# Altium footprint library bt.PcbLib: 12 footprints
Each footprint in its own frame and in the unit in brackets; x right, y up, seen from the top. Pads: shape width x height; smd on the part's side, far side on the other; paste and mask are expansions set on the pad; w line width, h text height; cw(c..) or ccw(c..) is an arc to the next point about the centre after c.
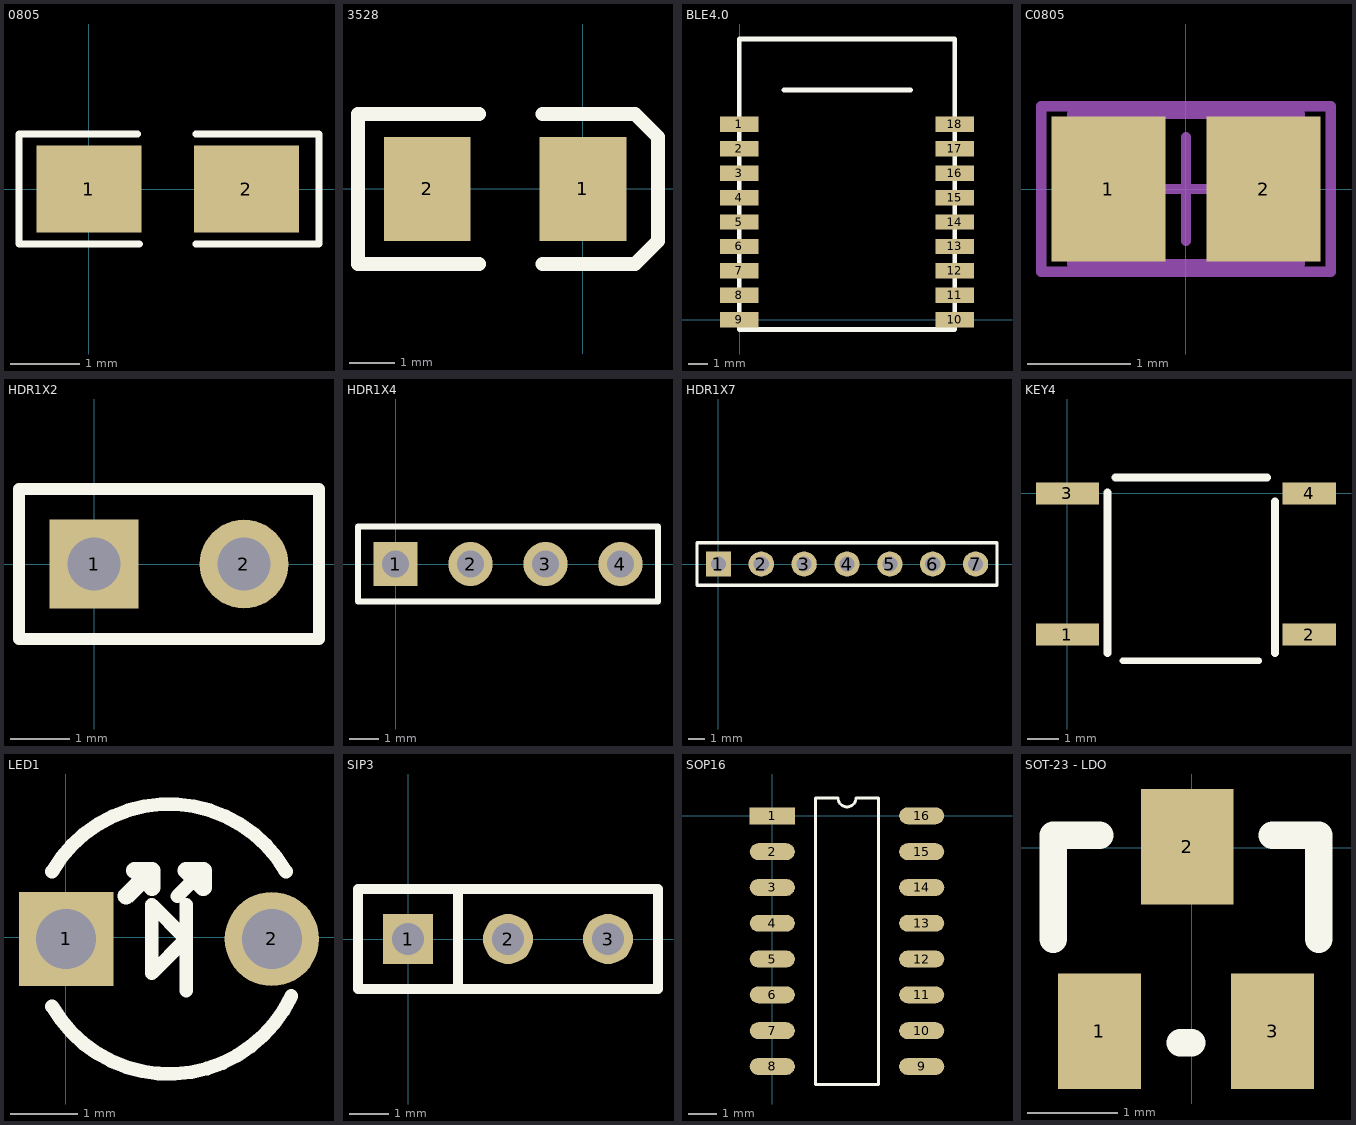
[diagram p0: the footprints below, top view; thin cyan lines are the x and y axes]

## 0805 [mil]
pads (2):
  rect 60x50 smd: 1(0,0) 2(90,0)
Top Overlay:
  lines w3.94: 27.87,31.5 -40,31.5 -40,-31.5 28.94,-31.5 ; 61.06,-31.5 120,-31.5 131.5,-31.5 131.5,31.5 61.06,31.5

## 3528 [mil]
pads (2):
  rect 75x90 smd: 1(0,0) 2(-135,0)
Top Overlay:
  lines w12: -90,-65 -195,-65 -195,65 -90,65 ; -35,-65 45,-65 65,-45 65,45 45,65 -35,65

## BLE4.0 [mm]
pads (18):
  rect 2x0.8 smd: 1(-0.024,10.16) 2(-0.024,8.89) 3(-0.024,7.62) 4(-0.024,6.35) 5(-0.024,5.08) 6(-0.024,3.81) 7(-0.024,2.54) 8(-0.024,1.27) 9(-0.024,0) 10(11.176,0) 11(11.176,1.27) 12(11.176,2.54) 13(11.176,3.81) 14(11.176,5.08) 15(11.176,6.35) 16(11.176,7.62) 17(11.176,8.89) 18(11.176,10.16)
Top Overlay:
  lines w0.254: 2.286,11.938 8.89,11.938 ; -0.024,-0.508 -0.024,14.592 11.176,14.592 11.176,-0.508 -0.024,-0.508

## C0805 [mm] "Chip Capacitor, Body 2.0x1.3mm, IPC High Density"
height 1.4
pads (2):
  rect 1.1x1.4 smd: 1(-0.75,0) 2(0.75,0)
Mechanical 13:
  lines w0.1: -1.1,-0.725 1.1,-0.725 1.1,0.725 -1.1,0.725 -1.1,-0.725
Mechanical 15:
  lines w0.1: -0.5,0 0.5,0 ; 0,-0.5 0,0.5 ; -1.4,-0.8 1.4,-0.8 1.4,0.8 -1.4,0.8 -1.4,-0.8
3D body: height 1.4, standoff 0, extent -1.1,-0.725 1.1,0.725

## HDR1X2 [mm] "Connector; Header; 2 Position"
pads (2):
  rect 1.5x1.5 hole 0.9: 1(0,0)
  round 1.5 hole 0.9: 2(2.54,0)
Top Overlay:
  lines w0.2: -1.27,-1.27 3.81,-1.27 3.81,1.27 -1.27,1.27 -1.27,-1.27

## HDR1X4 [mm] "Connector; Header; 4 Position"
pads (4):
  rect 1.5x1.5 hole 0.9: 1(0,0)
  round 1.5 hole 0.9: 2(2.54,0) 3(5.08,0) 4(7.62,0)
Top Overlay:
  lines w0.2: -1.27,-1.27 -1.27,1.27 8.89,1.27 8.89,-1.27 -1.27,-1.27

## HDR1X7 [mm] "Connector; Header; 7 Position"
pads (7):
  rect 1.5x1.5 hole 0.9: 1(0,0)
  round 1.5 hole 0.9: 2(2.54,0) 3(5.08,0) 4(7.62,0) 5(10.16,0) 6(12.7,0) 7(15.24,0)
Top Overlay:
  lines w0.2: -1.27,-1.27 -1.27,1.27 16.51,1.27 16.51,-1.27 -1.27,-1.27

## KEY4 [mm]
pads (4):
  rect 2x0.7 smd: 1(0,-4.5) 3(0,0)
  rect 1.7x0.7 smd: 2(7.7,-4.5) 4(7.7,0)
Top Overlay:
  lines w0.2: 1.766,-5.334 6.096,-5.334
  lines w0.254: 1.27,-5.08 1.27,0.024 ; 1.524,0.508 6.35,0.508 ; 6.604,-5.08 6.604,-0.254

## LED1 [mil]
pads (2):
  rect 55x55 hole 35: 1(0.09,-1.05)
  round 55 hole 35: 2(120.09,-1.05)
Top Overlay:
  lines w8: -8.1,-40.42 ccw(c60.09,-1.05) 131.46,-34.32 ; -8.1,38.32 cw(c60.09,-1.05) 128.28,38.32 ; 40.09,38.95 50.09,28.95 ; 65.09,23.95 80.09,38.95 ; 70.09,-31.05 70.09,18.95 ; 50.09,-21.05 70.09,-1.05 50.09,18.95 50.09,-21.05
  lines w10: 35.09,23.95 50.09,38.95 ; 40.09,38.95 50.09,38.95 ; 50.09,28.95 50.09,38.95 ; 70.09,38.95 80.09,38.95 80.09,28.95 70.09,38.95

## SIP3 [mil]
pads (3):
  rect 50x50 hole 32: 1(0,0)
  round 50 hole 32: 2(100,0) 3(200,0)
Top Overlay:
  lines w10: 50,-50 50,50 ; -50,-50 -50,50 250,50 250,-50 -50,-50

## SOP16 [mm]
pads (16):
  rect 1.6x0.6 smd: 1(0,0)
  oval 1.6x0.6 smd: 2(0,-1.27) 3(0,-2.54) 4(0,-3.81) 5(0,-5.08) 6(0,-6.35) 7(0,-7.62) 8(0,-8.89) 9(5.3,-8.89) 10(5.3,-7.62) 11(5.3,-6.35) 12(5.3,-5.08) 13(5.3,-3.81) 14(5.3,-2.54) 15(5.3,-1.27) 16(5.3,0)
Top Overlay:
  lines w0.1: 1.535,-9.525 3.765,-9.525 3.765,0.635 2.967,0.635 cw(c2.65,0.635) 2.332,0.635 1.535,0.635 1.535,-9.525

## SOT-23 - LDO [mil]
pads (3):
  rect 36x50 smd: 1(-39.97,-79.46) 3(35.03,-79.46)
  rect 40x50 smd: 2(-1.97,0.54)
Top Overlay:
  lines w12: -59.97,-39.46 -59.97,5.54 -39.97,5.54 ; -4.97,-84.46 0.03,-84.46 ; 35.03,5.54 55.03,5.54 55.03,-39.46